# Altium footprint library Footprint.PcbLib: 97 footprints (part 2 of 7)
Each footprint in its own frame and in the unit in brackets; x right, y up, seen from the top. Pads: shape width x height; smd on the part's side, far side on the other; paste and mask are expansions set on the pad; w line width, h text height; cw(c..) or ccw(c..) is an arc to the next point about the centre after c.
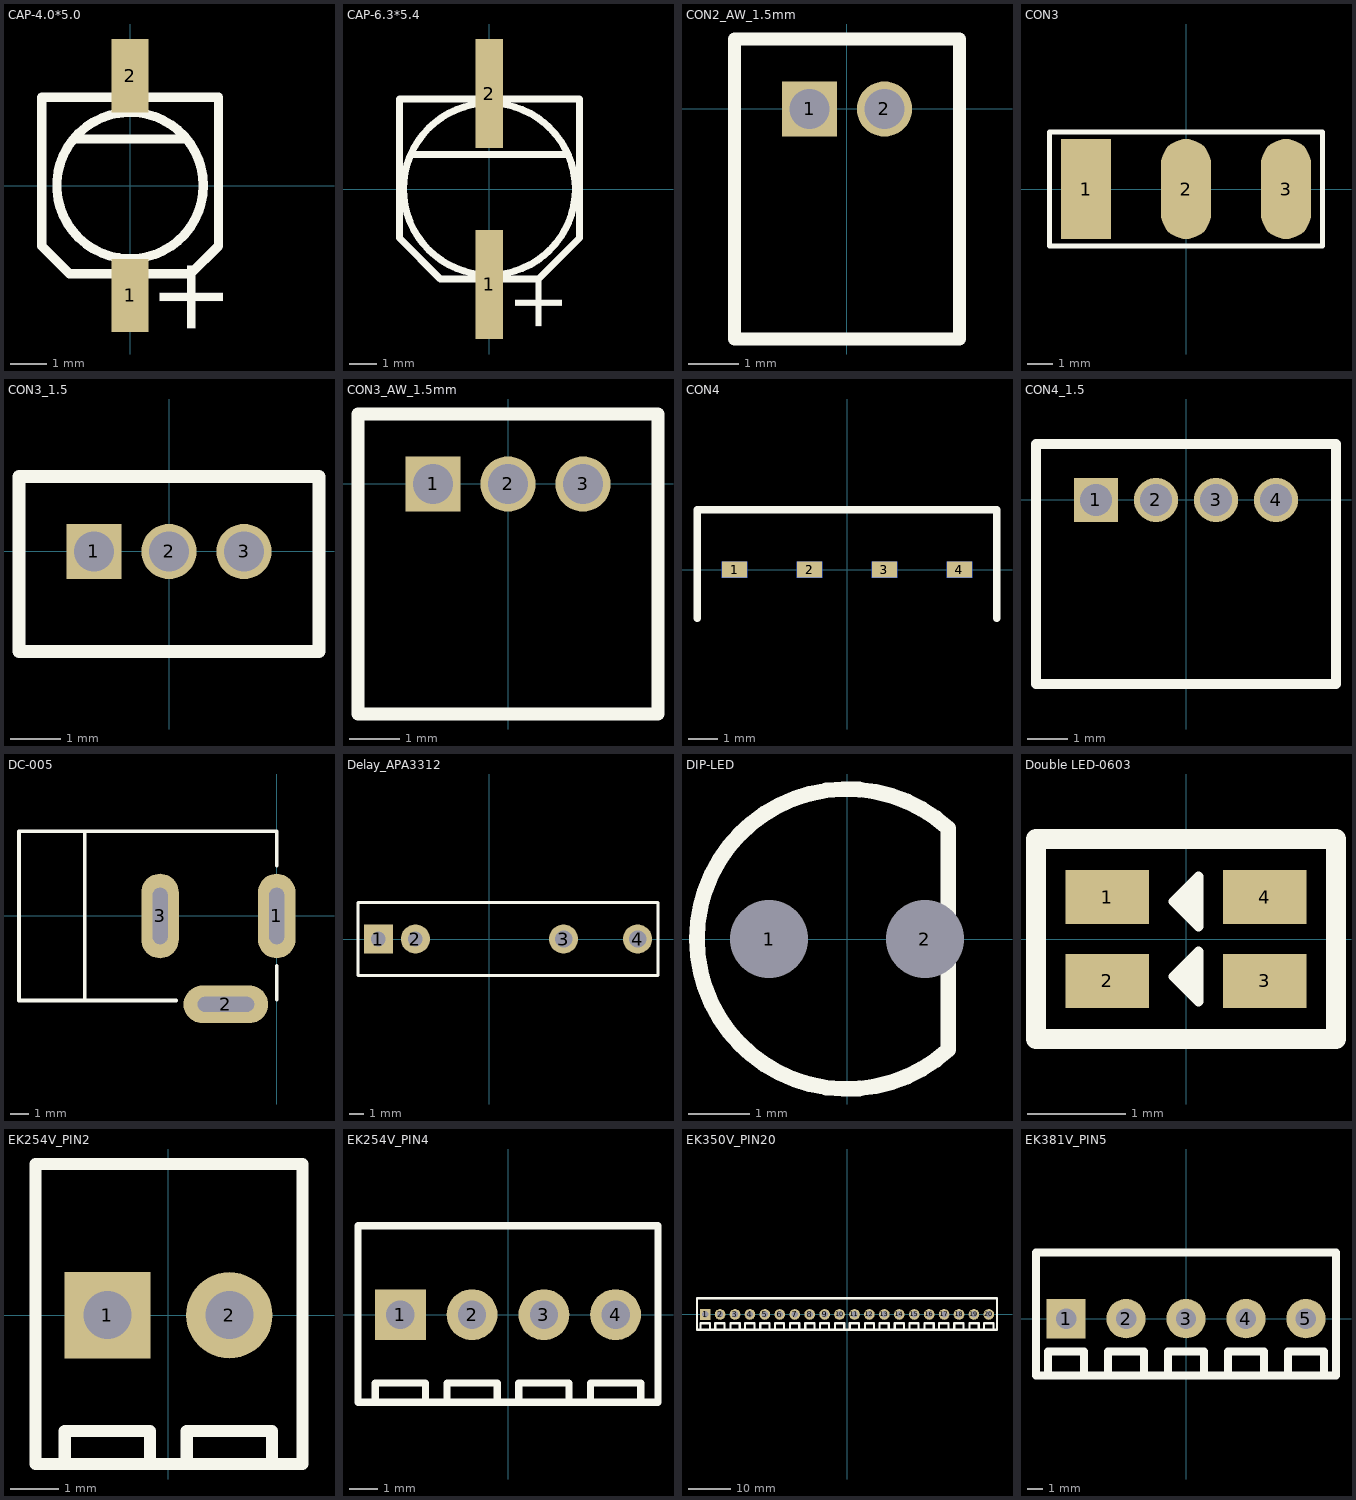
[diagram p1: the footprints below, top view; thin cyan lines are the x and y axes]

## CAP-4.0*5.0 [mm]
pads (2):
  rect 1x2 smd: 1(0,-3) 2(0,3)
Top Overlay:
  circle w0.254: c0,0 r2
  lines w0.254: -1.524,1.27 1.524,1.27 ; -2.413,-1.651 -2.413,2.413 2.413,2.413 2.413,-1.651 1.651,-2.413 -1.651,-2.413 -2.413,-1.651
  text "+" at 2.54,-4.191 h2

## CAP-6.3*5.4 [mm]
pads (2):
  rect 1x4 smd: 1(0,-3.5) 2(0,3.5)
Top Overlay:
  circle w0.254: c0,0 r3.15
  lines w0.254: -2.794,1.27 2.794,1.27 ; -3.3,-1.8 -3.3,3.3 3.3,3.3 3.3,-1.8 1.8,-3.3 -1.8,-3.3 -3.3,-1.8
  text "+" at 2.667,-5.334 h2

## CON2_AW_1.5mm [mm] "弯脚，2pin，间距1.5mm"
pads (2):
  rect 1.1x1.1 hole 0.8: 1(-0.75,0)
  round 1.1 hole 0.8: 2(0.75,0)
Top Overlay:
  lines w0.254: -2.25,-4.6 -2.25,1.4 2.25,1.4 2.25,-4.6 -2.25,-4.6

## CON3 [mm]
pads (3):
  rect 2x4 smd: 1(-4,0)
  oval 2x4 smd: 2(0,0) 3(4,0)
Top Overlay:
  lines w0.2: -5.461,-2.286 5.461,-2.286 5.461,2.286 -5.461,2.286 -5.461,-2.286

## CON3_1.5 [mm]
pads (3):
  rect 1.1x1.1 hole 0.8: 1(-1.5,0)
  round 1.1 hole 0.8: 2(0,0) 3(1.5,0)
Top Overlay:
  lines w0.254: -3,-2 3,-2 3,1.5 -3,1.5 -3,-2

## CON3_AW_1.5mm [mm] "弯脚，间距1.5mm"
pads (3):
  rect 1.1x1.1 hole 0.8: 1(-1.5,0)
  round 1.1 hole 0.8: 2(0,0) 3(1.5,0)
Top Overlay:
  lines w0.254: -3,-4.6 3,-4.6 3,1.4 -3,1.4 -3,-4.6

## CON4 [mm]
pads (8):
  rect 0.85x0.55 smd: 1(-3.81,0) 2(-1.27,0) 3(1.27,0) 4(3.81,0)
  rect 0.85x0.55 smd far side: 1(-3.81,0) 2(-1.27,0) 3(1.27,0) 4(3.81,0)
Top Overlay:
  lines w0.254: -5.08,-1.651 -5.08,2.032 5.08,2.032 5.08,-1.651

## CON4_1.5 [mm]
pads (4):
  rect 1.1x1.1 hole 0.8: 1(-2.25,0)
  round 1.1 hole 0.8: 2(-0.75,0) 3(0.75,0) 4(2.25,0)
Top Overlay:
  lines w0.254: -3.75,-4.6 3.75,-4.6 3.75,1.4 -3.75,1.4 -3.75,-4.6

## DC-005 [mm]
pads (3):
  oval 2x4.5 hole 0.8 slot 3 at 90 deg: 1(0,0) 3(-6.2,0)
  oval 4.5x2 hole 0.8 slot 3 at 0 deg: 2(-2.7,-4.7)
Top Overlay:
  lines w0.2: -10.2,-4.5 -10.2,4.5 ; -5.334,-4.5 -13.7,-4.5 -13.7,4.5 0,4.5 0,2.667 ; 0,-4.445 0,-2.667

## Delay_APA3312 [mm]
pads (4):
  rect 2x2 hole 1: 1(-7.62,0)
  round 2 hole 1: 2(-5.08,0)
  round 2 hole 1.2: 3(5.08,0) 4(10.16,0)
Top Overlay:
  lines w0.2: -9.017,-2.5 11.557,-2.5 11.557,2.5 -9.017,2.5 -9.017,-2.5

## DIP-LED [mm]
pads (2):
  rect 0.85x0.55 hole 1.27: 1(-1.27,0)
  oval 0.85x0.55 hole 1.27: 2(1.27,0)
Top Overlay:
  lines w0.254: 1.651,-1.8 cw(c0,0) 1.651,1.8 1.651,-1.8

## Double LED-0603 [mm]
pads (4):
  rect 0.85x0.55 smd: 1(-0.8,0.425) 2(-0.8,-0.425) 3(0.8,-0.425) 4(0.8,0.425)
Top Overlay:
  lines w0.1: -0.127,-0.381 0.127,-0.127 ; -0.127,-0.381 0.127,-0.635 ; -0.127,-0.381 0.127,-0.381 ; -0.127,-0.381 0.127,-0.127 ; -0.127,-0.381 0.127,-0.635 ; -0.127,0.381 0.127,0.381 ; -0.127,0.381 0.127,0.127 0.127,0.635 ; -0.127,0.381 0.127,0.635 ; 0,-0.508 0.127,-0.508 0.127,-0.127 ; 0,-0.508 0,-0.254 ; 0,-0.508 0.127,-0.381 ; 0,-0.254 0.127,-0.254 0.127,-0.381 ; 0,-0.254 0.127,-0.381 ; 0,0.254 0.127,0.381 ; 0,0.254 0,0.508 ; 0,0.254 0.127,0.254 0.127,0.635 ; 0,0.508 0.127,0.381 ; 0,0.508 0.127,0.508 0.127,0.381 ; 0.127,-0.635 0.127,-0.127 ; 0.127,-0.635 0.127,-0.127
  lines w0.2: -1.524,-1.016 -1.524,1.016 1.524,1.016 1.524,-1.016 -1.524,-1.016

## EK254V_PIN2 [mm]
pads (2):
  rect 1.8x1.8 hole 1: 1(-1.27,0)
  round 1.8 hole 1: 2(1.27,0)
Top Overlay:
  lines w0.254: -2.159,-3.048 -2.159,-2.413 -0.381,-2.413 -0.381,-3.048 ; 0.381,-3.048 0.381,-2.413 2.159,-2.413 2.159,-3.048 ; -2.77,-3.1 2.794,-3.1 2.794,3.15 -2.77,3.15 -2.77,-3.1

## EK254V_PIN4 [mm]
pads (4):
  rect 1.8x1.8 hole 1: 1(-3.81,0)
  round 1.8 hole 1: 2(-1.27,0) 3(1.27,0) 4(3.81,0)
Top Overlay:
  lines w0.254: -4.699,-3.048 -4.699,-2.413 -2.921,-2.413 -2.921,-3.048 ; -2.159,-3.048 -2.159,-2.413 -0.381,-2.413 -0.381,-3.048 ; 0.381,-3.048 0.381,-2.413 2.159,-2.413 2.159,-3.048 ; 2.921,-3.048 2.921,-2.413 4.699,-2.413 4.699,-3.048 ; -5.31,-3.1 5.31,-3.1 5.31,3.15 -5.31,3.15 -5.31,-3.1

## EK350V_PIN20 [mm]
pads (20):
  rect 2.5x2.5 hole 1.5: 1(-33.25,0)
  round 2.5 hole 1.5: 2(-29.75,0) 3(-26.25,0) 4(-22.75,0) 5(-19.25,0) 6(-15.75,0) 7(-12.25,0) 8(-8.75,0) 9(-5.25,0) 10(-1.75,0) 11(1.75,0) 12(5.25,0) 13(8.75,0) 14(12.25,0) 15(15.75,0) 16(19.25,0) 17(22.75,0) 18(26.25,0) 19(29.75,0) 20(33.25,0)
Top Overlay:
  lines w0.5: -35.15,-3.6 -35.15,3.8 35.15,3.8 35.15,-3.6 0,-3.6 -35.052,-3.6 ; -34.29,-3.6 -34.29,-2.083 -32.131,-2.083 -32.131,-3.6 ; -30.861,-3.6 -30.861,-2.083 -28.702,-2.083 -28.702,-3.6 ; -27.305,-3.6 -27.305,-2.083 -25.146,-2.083 -25.146,-3.6 ; -23.876,-3.6 -23.876,-2.083 -21.717,-2.083 -21.717,-3.6 ; -20.32,-3.6 -20.32,-2.083 -18.161,-2.083 -18.161,-3.6 ; -16.891,-3.6 -16.891,-2.083 -14.732,-2.083 -14.732,-3.6 ; -13.335,-3.6 -13.335,-2.083 -11.176,-2.083 -11.176,-3.6 ; -9.779,-3.6 -9.779,-2.083 -7.62,-2.083 -7.62,-3.6 ; -6.35,-3.6 -6.35,-2.083 -4.191,-2.083 -4.191,-3.6 ; -2.794,-3.6 -2.794,-2.083 -0.635,-2.083 -0.635,-3.6 ; 0.635,-3.6 0.635,-2.083 2.794,-2.083 2.794,-3.6 ; 4.191,-3.6 4.191,-2.083 6.35,-2.083 6.35,-3.6 ; 7.62,-3.6 7.62,-2.083 9.779,-2.083 9.779,-3.6 ; 11.176,-3.6 11.176,-2.083 13.335,-2.083 13.335,-3.6 ; 14.605,-3.6 14.605,-2.083 16.764,-2.083 16.764,-3.6 ; 18.161,-3.6 18.161,-2.083 20.32,-2.083 20.32,-3.6 ; 21.59,-3.6 21.59,-2.083 23.749,-2.083 23.749,-3.6 ; 25.146,-3.6 25.146,-2.083 27.305,-2.083 27.305,-3.6 ; 28.702,-3.6 28.702,-2.083 30.861,-2.083 30.861,-3.6 ; 32.131,-3.6 32.131,-2.083 34.29,-2.083 34.29,-3.6

## EK381V_PIN5 [mm]
pads (5):
  rect 2.5x2.5 hole 1.3: 1(-7.62,0)
  round 2.5 hole 1.3: 2(-3.81,0) 3(0,0) 4(3.81,0) 5(7.62,0)
Top Overlay:
  lines w0.5: -8.763,-3.6 -8.763,-2.083 ; -6.477,-3.6 -6.477,-2.083 ; -4.953,-3.6 -4.953,-2.083 ; -2.667,-3.6 -2.667,-2.083 ; 2.667,-3.6 2.667,-2.083 ; 4.953,-3.6 4.953,-2.083 ; 6.477,-3.6 6.477,-2.083 ; 8.763,-3.6 8.763,-2.083 ; -8.763,-2.083 -6.477,-2.083 ; -8.763,-2.083 -6.477,-2.083 ; -4.953,-2.083 -2.667,-2.083 ; -4.953,-2.083 -2.667,-2.083 ; -1.143,-2.083 -1.143,-3.6 -1.143,-2.083 ; -1.143,-2.083 1.143,-2.083 ; -1.143,-2.083 1.143,-2.083 ; -1.143,-2.083 1.143,-2.083 ; -1.143,-2.083 1.143,-2.083 ; 1.143,-2.083 1.143,-3.6 1.143,-2.083 ; 2.667,-2.083 4.953,-2.083 ; 2.667,-2.083 4.953,-2.083 ; 6.477,-2.083 8.763,-2.083 ; 6.477,-2.083 8.763,-2.083 ; -9.53,-3.6 -9.53,4.2 9.53,4.2 9.53,-3.6 -9.53,-3.6